# Altium schematic symbol library SCH - OPAMP - ANALOG DEV ADA4891-2ARZ R-8.SCHLIB: 1 symbol
Pins are listed as number, name and electrical type; pins without a type are passive.

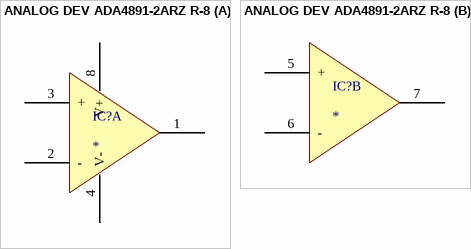
[diagram p0: symbol ANALOG DEV ADA4891-2ARZ R-8]

## ANALOG DEV ADA4891-2ARZ R-8
designator IC?
part A pins: 1 OUT, 2 -, 3 +, 4 V-, 8 V+
part B pins: 5 +, 6 -, 7 OUT